# Altium integrated library Altium_WCAP-CSGP (rev22a).IntLib: 953 symbols (part 5 of 17)
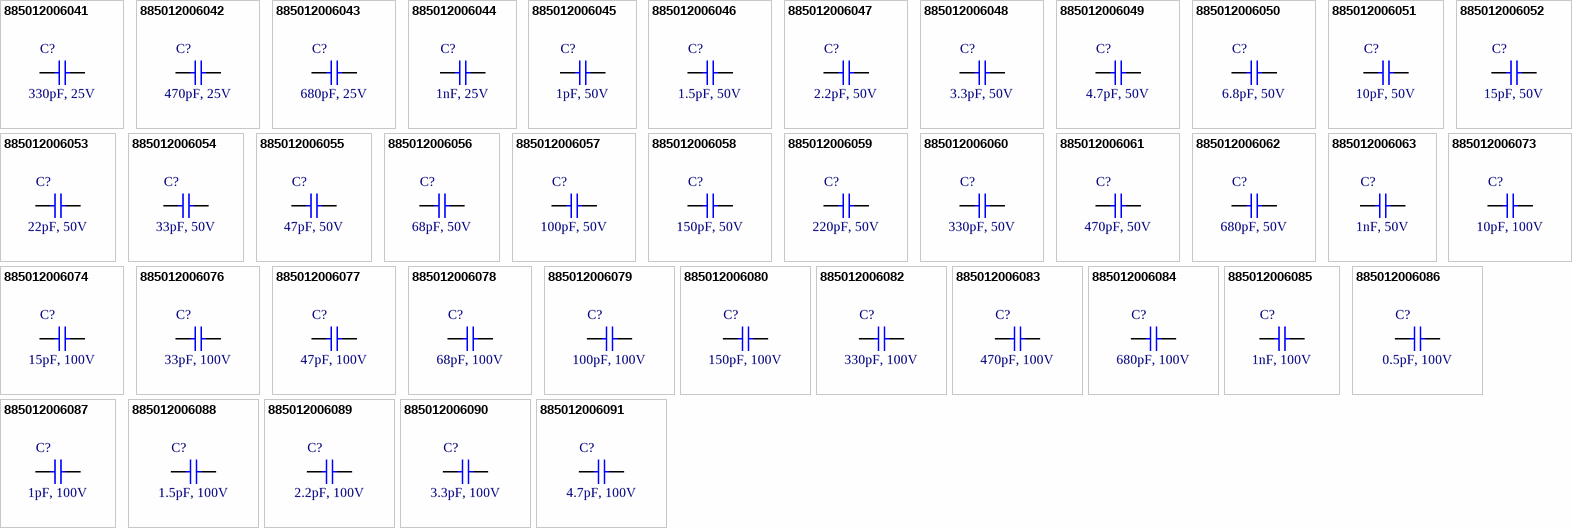
[diagram p31: symbols 885012006041 to 885012006091]

## 885012006084
designator C?, comment 680pF, 100V
WCAP-CSGP Multilayer Ceramic Chip Capacitor, General Purpose, size 0603, NP0, 680pF, 100V; Manufacturer: Wurth Elektronik; Manufacturer Part Number: 885012006084; Capacitance Tolerance: +/-5%; Isolation Resistance: 10GOhm; Q-Factor: 1000; Technical Reference: NP00603681J100DFCT10000; Capacitance: 680pF; Ceramic Type: NP0; ComponentLink1Description: Manufacturer Link; ComponentLink1URL: http://www.we-online.de; ComponentLink2Description: Datasheet; ComponentLink2URL: https://www.we-online.com/catalog/datasheet/885012006084.pdf; Height: 0.8mm; Length: 1.6mm; Mounting Technology: SMT; Operating Temperature max.: 125C; Operating Temperature min.: -55C; Packaging: Tape and Reel; Rated Voltage: 100V; Size: 0603; Width: 0.8mm
footprint WCAP-CSGP_0603_L1.6W0.8H0.8_Wave
footprint WCAP-CSGP_0603_L1.6W0.8H0.8_Reflow
pins: 1, 2

## 885012006085
designator C?, comment 1nF, 100V
WCAP-CSGP Multilayer Ceramic Chip Capacitor, General Purpose, size 0603, NP0, 1nF, 100V; Manufacturer: Wurth Elektronik; Manufacturer Part Number: 885012006085; Capacitance Tolerance: +/-5%; Isolation Resistance: 10GOhm; Q-Factor: 1000; Technical Reference: NP00603102J100DFCT10000; Capacitance: 1nF; Ceramic Type: NP0; ComponentLink1Description: Manufacturer Link; ComponentLink1URL: http://www.we-online.de; ComponentLink2Description: Datasheet; ComponentLink2URL: https://www.we-online.com/catalog/datasheet/885012006085.pdf; Height: 0.8mm; Length: 1.6mm; Mounting Technology: SMT; Operating Temperature max.: 125C; Operating Temperature min.: -55C; Packaging: Tape and Reel; Rated Voltage: 100V; Size: 0603; Width: 0.8mm
footprint WCAP-CSGP_0603_L1.6W0.8H0.8_Wave
footprint WCAP-CSGP_0603_L1.6W0.8H0.8_Reflow
pins: 1, 2

## 885012006086
designator C?, comment 0.5pF, 100V
WCAP-CSGP Multilayer Ceramic Chip Capacitor, General Purpose, size 0603, NP0, 0.5pF, 100V; Manufacturer: Wurth Elektronik; Manufacturer Part Number: 885012006086; Capacitance Tolerance: +/-0.25pF; Isolation Resistance: 10GOhm; Q-Factor: 410; Technical Reference: NP00603R50C100DFCT10000; Capacitance: 0.5pF; Ceramic Type: NP0; ComponentLink1Description: Manufacturer Link; ComponentLink1URL: http://www.we-online.de; ComponentLink2Description: Datasheet; ComponentLink2URL: https://www.we-online.com/catalog/datasheet/885012006086.pdf; Height: 0.8mm; Length: 1.6mm; Mounting Technology: SMT; Operating Temperature max.: 125C; Operating Temperature min.: -55C; Packaging: Tape and Reel; Rated Voltage: 100V; Size: 0603; Width: 0.8mm
footprint WCAP-CSGP_0603_L1.6W0.8H0.8_Wave
footprint WCAP-CSGP_0603_L1.6W0.8H0.8_Reflow
pins: 1, 2

## 885012006087
designator C?, comment 1pF, 100V
WCAP-CSGP Multilayer Ceramic Chip Capacitor, General Purpose, size 0603, NP0, 1pF, 100V; Manufacturer: Wurth Elektronik; Manufacturer Part Number: 885012006087; Capacitance Tolerance: +/-0.25pF; Isolation Resistance: 10GOhm; Q-Factor: 420; Technical Reference: NP006031R0C100DFCT10000; Capacitance: 1pF; Ceramic Type: NP0; ComponentLink1Description: Manufacturer Link; ComponentLink1URL: http://www.we-online.de; ComponentLink2Description: Datasheet; ComponentLink2URL: https://www.we-online.com/catalog/datasheet/885012006087.pdf; Height: 0.8mm; Length: 1.6mm; Mounting Technology: SMT; Operating Temperature max.: 125C; Operating Temperature min.: -55C; Packaging: Tape and Reel; Rated Voltage: 100V; Size: 0603; Width: 0.8mm
footprint WCAP-CSGP_0603_L1.6W0.8H0.8_Wave
footprint WCAP-CSGP_0603_L1.6W0.8H0.8_Reflow
pins: 1, 2

## 885012006088
designator C?, comment 1.5pF, 100V
WCAP-CSGP Multilayer Ceramic Chip Capacitor, General Purpose, size 0603, NP0, 1.5pF, 100V; Manufacturer: Wurth Elektronik; Manufacturer Part Number: 885012006088; Capacitance Tolerance: +/-0.25pF; Isolation Resistance: 10GOhm; Q-Factor: 430; Technical Reference: NP006031R5C100DFCT10000; Capacitance: 1.5pF; Ceramic Type: NP0; ComponentLink1Description: Manufacturer Link; ComponentLink1URL: http://www.we-online.de; ComponentLink2Description: Datasheet; ComponentLink2URL: https://www.we-online.com/catalog/datasheet/885012006088.pdf; Height: 0.8mm; Length: 1.6mm; Mounting Technology: SMT; Operating Temperature max.: 125C; Operating Temperature min.: -55C; Packaging: Tape and Reel; Rated Voltage: 100V; Size: 0603; Width: 0.8mm
footprint WCAP-CSGP_0603_L1.6W0.8H0.8_Wave
footprint WCAP-CSGP_0603_L1.6W0.8H0.8_Reflow
pins: 1, 2

## 885012006089
designator C?, comment 2.2pF, 100V
WCAP-CSGP Multilayer Ceramic Chip Capacitor, General Purpose, size 0603, NP0, 2.2pF, 100V; Manufacturer: Wurth Elektronik; Manufacturer Part Number: 885012006089; Capacitance Tolerance: +/-0.25pF; Isolation Resistance: 10GOhm; Q-Factor: 444; Technical Reference: NP006032R2C100DFCT10000; Capacitance: 2.2pF; Ceramic Type: NP0; ComponentLink1Description: Manufacturer Link; ComponentLink1URL: http://www.we-online.de; ComponentLink2Description: Datasheet; ComponentLink2URL: https://www.we-online.com/catalog/datasheet/885012006089.pdf; Height: 0.8mm; Length: 1.6mm; Mounting Technology: SMT; Operating Temperature max.: 125C; Operating Temperature min.: -55C; Packaging: Tape and Reel; Rated Voltage: 100V; Size: 0603; Width: 0.8mm
footprint WCAP-CSGP_0603_L1.6W0.8H0.8_Wave
footprint WCAP-CSGP_0603_L1.6W0.8H0.8_Reflow
pins: 1, 2

## 885012006090
designator C?, comment 3.3pF, 100V
WCAP-CSGP Multilayer Ceramic Chip Capacitor, General Purpose, size 0603, NP0, 3.3pF, 100V; Manufacturer: Wurth Elektronik; Manufacturer Part Number: 885012006090; Capacitance Tolerance: +/-0.25pF; Isolation Resistance: 10GOhm; Q-Factor: 466; Technical Reference: NP006033R3C100DFCT10000; Capacitance: 3.3pF; Ceramic Type: NP0; ComponentLink1Description: Manufacturer Link; ComponentLink1URL: http://www.we-online.de; ComponentLink2Description: Datasheet; ComponentLink2URL: https://www.we-online.com/catalog/datasheet/885012006090.pdf; Height: 0.8mm; Length: 1.6mm; Mounting Technology: SMT; Operating Temperature max.: 125C; Operating Temperature min.: -55C; Packaging: Tape and Reel; Rated Voltage: 100V; Size: 0603; Width: 0.8mm
footprint WCAP-CSGP_0603_L1.6W0.8H0.8_Wave
footprint WCAP-CSGP_0603_L1.6W0.8H0.8_Reflow
pins: 1, 2

## 885012006091
designator C?, comment 4.7pF, 100V
WCAP-CSGP Multilayer Ceramic Chip Capacitor, General Purpose, size 0603, NP0, 4.7pF, 100V; Manufacturer: Wurth Elektronik; Manufacturer Part Number: 885012006091; Capacitance Tolerance: +/-0.25pF; Isolation Resistance: 10GOhm; Q-Factor: 494; Technical Reference: NP006034R7C100DFCT10000; Capacitance: 4.7pF; Ceramic Type: NP0; ComponentLink1Description: Manufacturer Link; ComponentLink1URL: http://www.we-online.de; ComponentLink2Description: Datasheet; ComponentLink2URL: https://www.we-online.com/catalog/datasheet/885012006091.pdf; Height: 0.8mm; Length: 1.6mm; Mounting Technology: SMT; Operating Temperature max.: 125C; Operating Temperature min.: -55C; Packaging: Tape and Reel; Rated Voltage: 100V; Size: 0603; Width: 0.8mm
footprint WCAP-CSGP_0603_L1.6W0.8H0.8_Wave
footprint WCAP-CSGP_0603_L1.6W0.8H0.8_Reflow
pins: 1, 2

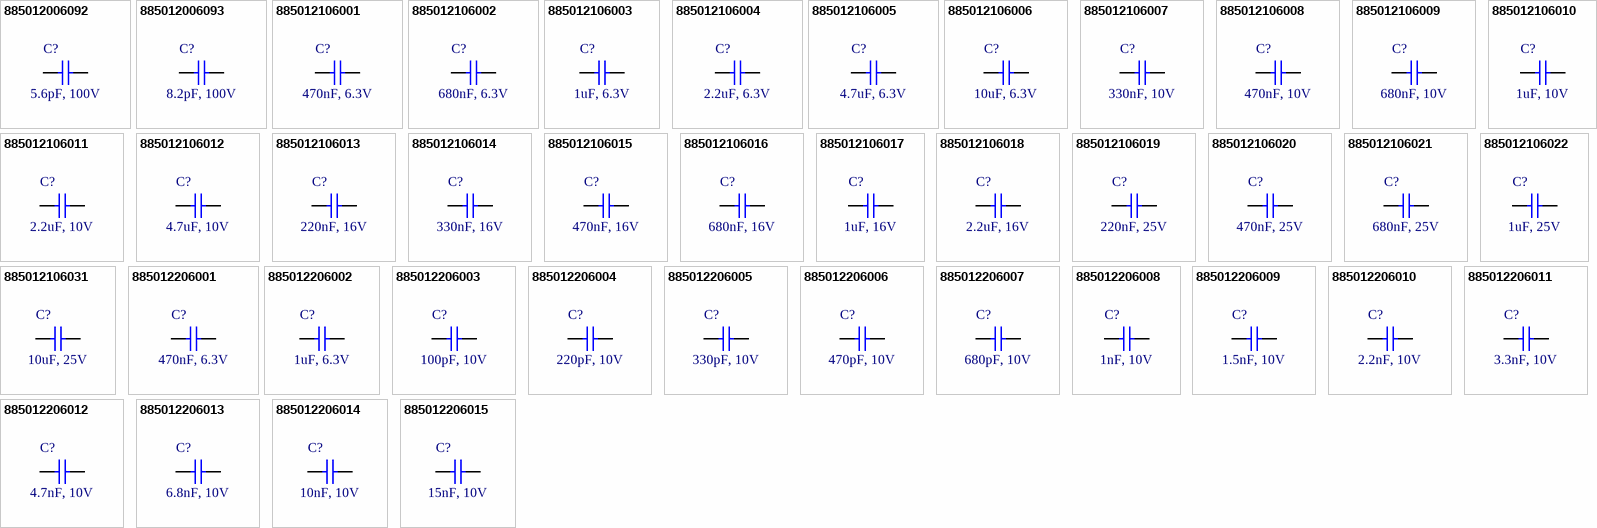
[diagram p7: symbols 885012006092 to 885012206015]

## 885012006092
designator C?, comment 5.6pF, 100V
WCAP-CSGP Multilayer Ceramic Chip Capacitor, General Purpose, size 0603, NP0, 5.6pF, 100V; Manufacturer: Wurth Elektronik; Manufacturer Part Number: 885012006092; Capacitance Tolerance: +/-0.5pF; Isolation Resistance: 10GOhm; Q-Factor: 512; Technical Reference: NP006035R6D100DFCT10000; Capacitance: 5.6pF; Ceramic Type: NP0; ComponentLink1Description: Manufacturer Link; ComponentLink1URL: http://www.we-online.de; ComponentLink2Description: Datasheet; ComponentLink2URL: https://www.we-online.com/catalog/datasheet/885012006092.pdf; Height: 0.8mm; Length: 1.6mm; Mounting Technology: SMT; Operating Temperature max.: 125C; Operating Temperature min.: -55C; Packaging: Tape and Reel; Rated Voltage: 100V; Size: 0603; Width: 0.8mm
footprint WCAP-CSGP_0603_L1.6W0.8H0.8_Wave
footprint WCAP-CSGP_0603_L1.6W0.8H0.8_Reflow
pins: 1, 2

## 885012006093
designator C?, comment 8.2pF, 100V
WCAP-CSGP Multilayer Ceramic Chip Capacitor, General Purpose, size 0603, NP0, 8.2pF, 100V; Manufacturer: Wurth Elektronik; Manufacturer Part Number: 885012006093; Capacitance Tolerance: +/-0.5pF; Isolation Resistance: 10GOhm; Q-Factor: 564; Technical Reference: NP006038R2D100DFCT10000; Capacitance: 8.2pF; Ceramic Type: NP0; ComponentLink1Description: Manufacturer Link; ComponentLink1URL: http://www.we-online.de; ComponentLink2Description: Datasheet; ComponentLink2URL: https://www.we-online.com/catalog/datasheet/885012006093.pdf; Height: 0.8mm; Length: 1.6mm; Mounting Technology: SMT; Operating Temperature max.: 125C; Operating Temperature min.: -55C; Packaging: Tape and Reel; Rated Voltage: 100V; Size: 0603; Width: 0.8mm
footprint WCAP-CSGP_0603_L1.6W0.8H0.8_Wave
footprint WCAP-CSGP_0603_L1.6W0.8H0.8_Reflow
pins: 1, 2

## 885012106001
designator C?, comment 470nF, 6.3V
WCAP-CSGP Multilayer Ceramic Chip Capacitor, General Purpose, size 0603, X5R, 470nF, 6.3V; Manufacturer: Wurth Elektronik; Manufacturer Part Number: 885012106001; Capacitance Tolerance: +/-20%; Dissipation Factor: 10%; Isolation Resistance: 0.2GOhm; Technical Reference: X5R0603474M6R3DFCT10000; Capacitance: 470nF; Ceramic Type: X5R; ComponentLink1Description: Manufacturer Link; ComponentLink1URL: http://www.we-online.de; ComponentLink2Description: Datasheet; ComponentLink2URL: https://www.we-online.com/catalog/datasheet/885012106001.pdf; Height: 0.8mm; Length: 1.6mm; Mounting Technology: SMT; Operating Temperature max.: 85C; Operating Temperature min.: -55C; Packaging: Tape and Reel; Rated Voltage: 6.3V; Size: 0603; Width: 0.8mm
footprint WCAP-CSGP_0603_L1.6W0.8H0.8_Wave
footprint WCAP-CSGP_0603_L1.6W0.8H0.8_Reflow
pins: 1, 2

## 885012106002
designator C?, comment 680nF, 6.3V
WCAP-CSGP Multilayer Ceramic Chip Capacitor, General Purpose, size 0603, X5R, 680nF, 6.3V; Manufacturer: Wurth Elektronik; Manufacturer Part Number: 885012106002; Capacitance Tolerance: +/-20%; Dissipation Factor: 10%; Isolation Resistance: 0.2GOhm; Technical Reference: X5R0603684M6R3DFCT10000; Capacitance: 680nF; Ceramic Type: X5R; ComponentLink1Description: Manufacturer Link; ComponentLink1URL: http://www.we-online.de; ComponentLink2Description: Datasheet; ComponentLink2URL: https://www.we-online.com/catalog/datasheet/885012106002.pdf; Height: 0.8mm; Length: 1.6mm; Mounting Technology: SMT; Operating Temperature max.: 85C; Operating Temperature min.: -55C; Packaging: Tape and Reel; Rated Voltage: 6.3V; Size: 0603; Width: 0.8mm
footprint WCAP-CSGP_0603_L1.6W0.8H0.8_Wave
footprint WCAP-CSGP_0603_L1.6W0.8H0.8_Reflow
pins: 1, 2

## 885012106003
designator C?, comment 1uF, 6.3V
WCAP-CSGP Multilayer Ceramic Chip Capacitor, General Purpose, size 0603, X5R, 1uF, 6.3V; Manufacturer: Wurth Elektronik; Manufacturer Part Number: 885012106003; Capacitance Tolerance: +/-20%; Dissipation Factor: 10%; Isolation Resistance: 0.1GOhm; Technical Reference: X5R0603105M6R3DFCT10000; Capacitance: 1uF; Ceramic Type: X5R; ComponentLink1Description: Manufacturer Link; ComponentLink1URL: http://www.we-online.de; ComponentLink2Description: Datasheet; ComponentLink2URL: https://www.we-online.com/catalog/datasheet/885012106003.pdf; Height: 0.8mm; Length: 1.6mm; Mounting Technology: SMT; Operating Temperature max.: 85C; Operating Temperature min.: -55C; Packaging: Tape and Reel; Rated Voltage: 6.3V; Size: 0603; Width: 0.8mm
footprint WCAP-CSGP_0603_L1.6W0.8H0.8_Wave
footprint WCAP-CSGP_0603_L1.6W0.8H0.8_Reflow
pins: 1, 2

## 885012106004
designator C?, comment 2.2uF, 6.3V
WCAP-CSGP Multilayer Ceramic Chip Capacitor, General Purpose, size 0603, X5R, 2.2uF, 6.3V; Manufacturer: Wurth Elektronik; Manufacturer Part Number: 885012106004; Capacitance Tolerance: +/-20%; Dissipation Factor: 10%; Isolation Resistance: 0.05GOhm; Technical Reference: X5R0603225M6R3DFCT10000; Capacitance: 2.2uF; Ceramic Type: X5R; ComponentLink1Description: Manufacturer Link; ComponentLink1URL: http://www.we-online.de; ComponentLink2Description: Datasheet; ComponentLink2URL: https://www.we-online.com/catalog/datasheet/885012106004.pdf; Height: 0.8mm; Length: 1.6mm; Mounting Technology: SMT; Operating Temperature max.: 85C; Operating Temperature min.: -55C; Packaging: Tape and Reel; Rated Voltage: 6.3V; Size: 0603; Width: 0.8mm
footprint WCAP-CSGP_0603_L1.6W0.8H0.8_Wave
footprint WCAP-CSGP_0603_L1.6W0.8H0.8_Reflow
pins: 1, 2

## 885012106005
designator C?, comment 4.7uF, 6.3V
WCAP-CSGP Multilayer Ceramic Chip Capacitor, General Purpose, size 0603, X5R, 4.7uF, 6.3V; Manufacturer: Wurth Elektronik; Manufacturer Part Number: 885012106005; Capacitance Tolerance: +/-20%; Dissipation Factor: 10%; Isolation Resistance: 0.02GOhm; Technical Reference: X5R0603475M6R3DFCT10000; Capacitance: 4.7uF; Ceramic Type: X5R; ComponentLink1Description: Manufacturer Link; ComponentLink1URL: http://www.we-online.de; ComponentLink2Description: Datasheet; ComponentLink2URL: https://www.we-online.com/catalog/datasheet/885012106005.pdf; Height: 0.8mm; Length: 1.6mm; Mounting Technology: SMT; Operating Temperature max.: 85C; Operating Temperature min.: -55C; Packaging: Tape and Reel; Rated Voltage: 6.3V; Size: 0603; Width: 0.8mm
footprint WCAP-CSGP_0603_L1.6W0.8H0.8_Wave
footprint WCAP-CSGP_0603_L1.6W0.8H0.8_Reflow
pins: 1, 2

## 885012106006
designator C?, comment 10uF, 6.3V
WCAP-CSGP Multilayer Ceramic Chip Capacitor, General Purpose, size 0603, X5R, 10uF, 6.3V; Manufacturer: Wurth Elektronik; Manufacturer Part Number: 885012106006; Capacitance Tolerance: +/-20%; Dissipation Factor: 10%; Isolation Resistance: 0.01GOhm; Technical Reference: X5R0603106M6R3DFCT10000; Capacitance: 10uF; Ceramic Type: X5R; ComponentLink1Description: Manufacturer Link; ComponentLink1URL: http://www.we-online.de; ComponentLink2Description: Datasheet; ComponentLink2URL: https://www.we-online.com/catalog/datasheet/885012106006.pdf; Height: 0.8mm; Length: 1.6mm; Mounting Technology: SMT; Operating Temperature max.: 85C; Operating Temperature min.: -55C; Packaging: Tape and Reel; Rated Voltage: 6.3V; Size: 0603; Width: 0.8mm
footprint WCAP-CSGP_0603_L1.6W0.8H0.8_Wave
footprint WCAP-CSGP_0603_L1.6W0.8H0.8_Reflow
pins: 1, 2

## 885012106007
designator C?, comment 330nF, 10V
WCAP-CSGP Multilayer Ceramic Chip Capacitor, General Purpose, size 0603, X5R, 330nF, 10V; Manufacturer: Wurth Elektronik; Manufacturer Part Number: 885012106007; Capacitance Tolerance: +/-20%; Dissipation Factor: 10%; Isolation Resistance: 1.5GOhm; Technical Reference: X5R0603334M010DFCT10000; Capacitance: 330nF; Ceramic Type: X5R; ComponentLink1Description: Manufacturer Link; ComponentLink1URL: http://www.we-online.de; ComponentLink2Description: Datasheet; ComponentLink2URL: https://www.we-online.com/catalog/datasheet/885012106007.pdf; Height: 0.8mm; Length: 1.6mm; Mounting Technology: SMT; Operating Temperature max.: 85C; Operating Temperature min.: -55C; Packaging: Tape and Reel; Rated Voltage: 10V; Size: 0603; Width: 0.8mm
footprint WCAP-CSGP_0603_L1.6W0.8H0.8_Wave
footprint WCAP-CSGP_0603_L1.6W0.8H0.8_Reflow
pins: 1, 2

## 885012106008
designator C?, comment 470nF, 10V
WCAP-CSGP Multilayer Ceramic Chip Capacitor, General Purpose, size 0603, X5R, 470nF, 10V; Manufacturer: Wurth Elektronik; Manufacturer Part Number: 885012106008; Capacitance Tolerance: +/-20%; Dissipation Factor: 10%; Isolation Resistance: 0.2GOhm; Technical Reference: X5R0603474M010DFCT10000; Capacitance: 470nF; Ceramic Type: X5R; ComponentLink1Description: Manufacturer Link; ComponentLink1URL: http://www.we-online.de; ComponentLink2Description: Datasheet; ComponentLink2URL: https://www.we-online.com/catalog/datasheet/885012106008.pdf; Height: 0.8mm; Length: 1.6mm; Mounting Technology: SMT; Operating Temperature max.: 85C; Operating Temperature min.: -55C; Packaging: Tape and Reel; Rated Voltage: 10V; Size: 0603; Width: 0.8mm
footprint WCAP-CSGP_0603_L1.6W0.8H0.8_Wave
footprint WCAP-CSGP_0603_L1.6W0.8H0.8_Reflow
pins: 1, 2

## 885012106009
designator C?, comment 680nF, 10V
WCAP-CSGP Multilayer Ceramic Chip Capacitor, General Purpose, size 0603, X5R, 680nF, 10V; Manufacturer: Wurth Elektronik; Manufacturer Part Number: 885012106009; Capacitance Tolerance: +/-20%; Dissipation Factor: 10%; Isolation Resistance: 0.2GOhm; Technical Reference: X5R0603684M010DFCT10000; Capacitance: 680nF; Ceramic Type: X5R; ComponentLink1Description: Manufacturer Link; ComponentLink1URL: http://www.we-online.de; ComponentLink2Description: Datasheet; ComponentLink2URL: https://www.we-online.com/catalog/datasheet/885012106009.pdf; Height: 0.8mm; Length: 1.6mm; Mounting Technology: SMT; Operating Temperature max.: 85C; Operating Temperature min.: -55C; Packaging: Tape and Reel; Rated Voltage: 10V; Size: 0603; Width: 0.8mm
footprint WCAP-CSGP_0603_L1.6W0.8H0.8_Wave
footprint WCAP-CSGP_0603_L1.6W0.8H0.8_Reflow
pins: 1, 2

## 885012106010
designator C?, comment 1uF, 10V
WCAP-CSGP Multilayer Ceramic Chip Capacitor, General Purpose, size 0603, X5R, 1uF, 10V; Manufacturer: Wurth Elektronik; Manufacturer Part Number: 885012106010; Capacitance Tolerance: +/-20%; Dissipation Factor: 10%; Isolation Resistance: 0.1GOhm; Technical Reference: X5R0603105M010DFCT10000; Capacitance: 1uF; Ceramic Type: X5R; ComponentLink1Description: Manufacturer Link; ComponentLink1URL: http://www.we-online.de; ComponentLink2Description: Datasheet; ComponentLink2URL: https://www.we-online.com/catalog/datasheet/885012106010.pdf; Height: 0.8mm; Length: 1.6mm; Mounting Technology: SMT; Operating Temperature max.: 85C; Operating Temperature min.: -55C; Packaging: Tape and Reel; Rated Voltage: 10V; Size: 0603; Width: 0.8mm
footprint WCAP-CSGP_0603_L1.6W0.8H0.8_Wave
footprint WCAP-CSGP_0603_L1.6W0.8H0.8_Reflow
pins: 1, 2

## 885012106011
designator C?, comment 2.2uF, 10V
WCAP-CSGP Multilayer Ceramic Chip Capacitor, General Purpose, size 0603, X5R, 2.2uF, 10V; Manufacturer: Wurth Elektronik; Manufacturer Part Number: 885012106011; Capacitance Tolerance: +/-20%; Dissipation Factor: 10%; Isolation Resistance: 0.05GOhm; Technical Reference: X5R0603225M010DFCT10000; Capacitance: 2.2uF; Ceramic Type: X5R; ComponentLink1Description: Manufacturer Link; ComponentLink1URL: http://www.we-online.de; ComponentLink2Description: Datasheet; ComponentLink2URL: https://www.we-online.com/catalog/datasheet/885012106011.pdf; Height: 0.8mm; Length: 1.6mm; Mounting Technology: SMT; Operating Temperature max.: 85C; Operating Temperature min.: -55C; Packaging: Tape and Reel; Rated Voltage: 10V; Size: 0603; Width: 0.8mm
footprint WCAP-CSGP_0603_L1.6W0.8H0.8_Wave
footprint WCAP-CSGP_0603_L1.6W0.8H0.8_Reflow
pins: 1, 2

## 885012106012
designator C?, comment 4.7uF, 10V
WCAP-CSGP Multilayer Ceramic Chip Capacitor, General Purpose, size 0603, X5R, 4.7uF, 10V; Manufacturer: Wurth Elektronik; Manufacturer Part Number: 885012106012; Capacitance Tolerance: +/-20%; Dissipation Factor: 10%; Isolation Resistance: 0.02GOhm; Technical Reference: X5R0603475M010DFCT10000; Capacitance: 4.7uF; Ceramic Type: X5R; ComponentLink1Description: Manufacturer Link; ComponentLink1URL: http://www.we-online.de; ComponentLink2Description: Datasheet; ComponentLink2URL: https://www.we-online.com/catalog/datasheet/885012106012.pdf; Height: 0.8mm; Length: 1.6mm; Mounting Technology: SMT; Operating Temperature max.: 85C; Operating Temperature min.: -55C; Packaging: Tape and Reel; Rated Voltage: 10V; Size: 0603; Width: 0.8mm
footprint WCAP-CSGP_0603_L1.6W0.8H0.8_Wave
footprint WCAP-CSGP_0603_L1.6W0.8H0.8_Reflow
pins: 1, 2

## 885012106013
designator C?, comment 220nF, 16V
WCAP-CSGP Multilayer Ceramic Chip Capacitor, General Purpose, size 0603, X5R, 220nF, 16V; Manufacturer: Wurth Elektronik; Manufacturer Part Number: 885012106013; Capacitance Tolerance: +/-20%; Dissipation Factor: 5%; Isolation Resistance: 2.3GOhm; Technical Reference: X5R0603224M016DFCT10000; Capacitance: 220nF; Ceramic Type: X5R; ComponentLink1Description: Manufacturer Link; ComponentLink1URL: http://www.we-online.de; ComponentLink2Description: Datasheet; ComponentLink2URL: https://www.we-online.com/catalog/datasheet/885012106013.pdf; Height: 0.8mm; Length: 1.6mm; Mounting Technology: SMT; Operating Temperature max.: 85C; Operating Temperature min.: -55C; Packaging: Tape and Reel; Rated Voltage: 16V; Size: 0603; Width: 0.8mm
footprint WCAP-CSGP_0603_L1.6W0.8H0.8_Wave
footprint WCAP-CSGP_0603_L1.6W0.8H0.8_Reflow
pins: 1, 2

## 885012106014
designator C?, comment 330nF, 16V
WCAP-CSGP Multilayer Ceramic Chip Capacitor, General Purpose, size 0603, X5R, 330nF, 16V; Manufacturer: Wurth Elektronik; Manufacturer Part Number: 885012106014; Capacitance Tolerance: +/-20%; Dissipation Factor: 5%; Isolation Resistance: 1.5GOhm; Technical Reference: X5R0603334M016DFCT10000; Capacitance: 330nF; Ceramic Type: X5R; ComponentLink1Description: Manufacturer Link; ComponentLink1URL: http://www.we-online.de; ComponentLink2Description: Datasheet; ComponentLink2URL: https://www.we-online.com/catalog/datasheet/885012106014.pdf; Height: 0.8mm; Length: 1.6mm; Mounting Technology: SMT; Operating Temperature max.: 85C; Operating Temperature min.: -55C; Packaging: Tape and Reel; Rated Voltage: 16V; Size: 0603; Width: 0.8mm
footprint WCAP-CSGP_0603_L1.6W0.8H0.8_Wave
footprint WCAP-CSGP_0603_L1.6W0.8H0.8_Reflow
pins: 1, 2

## 885012106015
designator C?, comment 470nF, 16V
WCAP-CSGP Multilayer Ceramic Chip Capacitor, General Purpose, size 0603, X5R, 470nF, 16V; Manufacturer: Wurth Elektronik; Manufacturer Part Number: 885012106015; Capacitance Tolerance: +/-20%; Dissipation Factor: 5%; Isolation Resistance: 1.1GOhm; Technical Reference: X5R0603474M016DFCT10000; Capacitance: 470nF; Ceramic Type: X5R; ComponentLink1Description: Manufacturer Link; ComponentLink1URL: http://www.we-online.de; ComponentLink2Description: Datasheet; ComponentLink2URL: https://www.we-online.com/catalog/datasheet/885012106015.pdf; Height: 0.8mm; Length: 1.6mm; Mounting Technology: SMT; Operating Temperature max.: 85C; Operating Temperature min.: -55C; Packaging: Tape and Reel; Rated Voltage: 16V; Size: 0603; Width: 0.8mm
footprint WCAP-CSGP_0603_L1.6W0.8H0.8_Wave
footprint WCAP-CSGP_0603_L1.6W0.8H0.8_Reflow
pins: 1, 2

## 885012106016
designator C?, comment 680nF, 16V
WCAP-CSGP Multilayer Ceramic Chip Capacitor, General Purpose, size 0603, X5R, 680nF, 16V; Manufacturer: Wurth Elektronik; Manufacturer Part Number: 885012106016; Capacitance Tolerance: +/-20%; Dissipation Factor: 10%; Isolation Resistance: 0.7GOhm; Technical Reference: X5R0603684M016DFCT10000; Capacitance: 680nF; Ceramic Type: X5R; ComponentLink1Description: Manufacturer Link; ComponentLink1URL: http://www.we-online.de; ComponentLink2Description: Datasheet; ComponentLink2URL: https://www.we-online.com/catalog/datasheet/885012106016.pdf; Height: 0.8mm; Length: 1.6mm; Mounting Technology: SMT; Operating Temperature max.: 85C; Operating Temperature min.: -55C; Packaging: Tape and Reel; Rated Voltage: 16V; Size: 0603; Width: 0.8mm
footprint WCAP-CSGP_0603_L1.6W0.8H0.8_Wave
footprint WCAP-CSGP_0603_L1.6W0.8H0.8_Reflow
pins: 1, 2

## 885012106017
designator C?, comment 1uF, 16V
WCAP-CSGP Multilayer Ceramic Chip Capacitor, General Purpose, size 0603, X5R, 1uF, 16V; Manufacturer: Wurth Elektronik; Manufacturer Part Number: 885012106017; Capacitance Tolerance: +/-20%; Dissipation Factor: 10%; Isolation Resistance: 0.1GOhm; Technical Reference: X5R0603105M016DFCT10000; Capacitance: 1uF; Ceramic Type: X5R; ComponentLink1Description: Manufacturer Link; ComponentLink1URL: http://www.we-online.de; ComponentLink2Description: Datasheet; ComponentLink2URL: https://www.we-online.com/catalog/datasheet/885012106017.pdf; Height: 0.8mm; Length: 1.6mm; Mounting Technology: SMT; Operating Temperature max.: 85C; Operating Temperature min.: -55C; Packaging: Tape and Reel; Rated Voltage: 16V; Size: 0603; Width: 0.8mm
footprint WCAP-CSGP_0603_L1.6W0.8H0.8_Wave
footprint WCAP-CSGP_0603_L1.6W0.8H0.8_Reflow
pins: 1, 2

## 885012106018
designator C?, comment 2.2uF, 16V
WCAP-CSGP Multilayer Ceramic Chip Capacitor, General Purpose, size 0603, X5R, 2.2uF, 16V; Manufacturer: Wurth Elektronik; Manufacturer Part Number: 885012106018; Capacitance Tolerance: +/-20%; Dissipation Factor: 10%; Isolation Resistance: 0.05GOhm; Technical Reference: X5R0603225M016DFCT10000; Capacitance: 2.2uF; Ceramic Type: X5R; ComponentLink1Description: Manufacturer Link; ComponentLink1URL: http://www.we-online.de; ComponentLink2Description: Datasheet; ComponentLink2URL: https://www.we-online.com/catalog/datasheet/885012106018.pdf; Height: 0.8mm; Length: 1.6mm; Mounting Technology: SMT; Operating Temperature max.: 85C; Operating Temperature min.: -55C; Packaging: Tape and Reel; Rated Voltage: 16V; Size: 0603; Width: 0.8mm
footprint WCAP-CSGP_0603_L1.6W0.8H0.8_Wave
footprint WCAP-CSGP_0603_L1.6W0.8H0.8_Reflow
pins: 1, 2

## 885012106019
designator C?, comment 220nF, 25V
WCAP-CSGP Multilayer Ceramic Chip Capacitor, General Purpose, size 0603, X5R, 220nF, 25V; Manufacturer: Wurth Elektronik; Manufacturer Part Number: 885012106019; Capacitance Tolerance: +/-20%; Dissipation Factor: 3.5%; Isolation Resistance: 2.3GOhm; Technical Reference: X5R0603224M025DFCT10000; Capacitance: 220nF; Ceramic Type: X5R; ComponentLink1Description: Manufacturer Link; ComponentLink1URL: http://www.we-online.de; ComponentLink2Description: Datasheet; ComponentLink2URL: https://www.we-online.com/catalog/datasheet/885012106019.pdf; Height: 0.8mm; Length: 1.6mm; Mounting Technology: SMT; Operating Temperature max.: 85C; Operating Temperature min.: -55C; Packaging: Tape and Reel; Rated Voltage: 25V; Size: 0603; Width: 0.8mm
footprint WCAP-CSGP_0603_L1.6W0.8H0.8_Wave
footprint WCAP-CSGP_0603_L1.6W0.8H0.8_Reflow
pins: 1, 2

## 885012106020
designator C?, comment 470nF, 25V
WCAP-CSGP Multilayer Ceramic Chip Capacitor, General Purpose, size 0603, X5R, 470nF, 25V; Manufacturer: Wurth Elektronik; Manufacturer Part Number: 885012106020; Capacitance Tolerance: +/-20%; Dissipation Factor: 10%; Isolation Resistance: 1.1GOhm; Technical Reference: X5R0603474M025DFCT10000; Capacitance: 470nF; Ceramic Type: X5R; ComponentLink1Description: Manufacturer Link; ComponentLink1URL: http://www.we-online.de; ComponentLink2Description: Datasheet; ComponentLink2URL: https://www.we-online.com/catalog/datasheet/885012106020.pdf; Height: 0.8mm; Length: 1.6mm; Mounting Technology: SMT; Operating Temperature max.: 85C; Operating Temperature min.: -55C; Packaging: Tape and Reel; Rated Voltage: 25V; Size: 0603; Width: 0.8mm
footprint WCAP-CSGP_0603_L1.6W0.8H0.8_Wave
footprint WCAP-CSGP_0603_L1.6W0.8H0.8_Reflow
pins: 1, 2

## 885012106021
designator C?, comment 680nF, 25V
WCAP-CSGP Multilayer Ceramic Chip Capacitor, General Purpose, size 0603, X5R, 680nF, 25V; Manufacturer: Wurth Elektronik; Manufacturer Part Number: 885012106021; Capacitance Tolerance: +/-20%; Dissipation Factor: 10%; Isolation Resistance: 0.7GOhm; Technical Reference: X5R0603684M025DFCT10000; Capacitance: 680nF; Ceramic Type: X5R; ComponentLink1Description: Manufacturer Link; ComponentLink1URL: http://www.we-online.de; ComponentLink2Description: Datasheet; ComponentLink2URL: https://www.we-online.com/catalog/datasheet/885012106021.pdf; Height: 0.8mm; Length: 1.6mm; Mounting Technology: SMT; Operating Temperature max.: 85C; Operating Temperature min.: -55C; Packaging: Tape and Reel; Rated Voltage: 25V; Size: 0603; Width: 0.8mm
footprint WCAP-CSGP_0603_L1.6W0.8H0.8_Wave
footprint WCAP-CSGP_0603_L1.6W0.8H0.8_Reflow
pins: 1, 2

## 885012106022
designator C?, comment 1uF, 25V
WCAP-CSGP Multilayer Ceramic Chip Capacitor, General Purpose, size 0603, X5R, 1uF, 25V; Manufacturer: Wurth Elektronik; Manufacturer Part Number: 885012106022; Capacitance Tolerance: +/-20%; Dissipation Factor: 10%; Isolation Resistance: 0.5GOhm; Technical Reference: X5R0603105M025DFCT10000; Capacitance: 1uF; Ceramic Type: X5R; ComponentLink1Description: Manufacturer Link; ComponentLink1URL: http://www.we-online.de; ComponentLink2Description: Datasheet; ComponentLink2URL: https://www.we-online.com/catalog/datasheet/885012106022.pdf; Height: 0.8mm; Length: 1.6mm; Mounting Technology: SMT; Operating Temperature max.: 85C; Operating Temperature min.: -55C; Packaging: Tape and Reel; Rated Voltage: 25V; Size: 0603; Width: 0.8mm
footprint WCAP-CSGP_0603_L1.6W0.8H0.8_Wave
footprint WCAP-CSGP_0603_L1.6W0.8H0.8_Reflow
pins: 1, 2

## 885012106031
designator C?, comment 10uF, 25V
WCAP-CSGP Multilayer Ceramic Chip Capacitor, General Purpose, size 0603, X5R, 10uF, 25V; Manufacturer: Wurth Elektronik; Manufacturer Part Number: 885012106031; Capacitance Tolerance: +/20%; Dissipation Factor: 20%; Isolation Resistance: 0.01GOhm; Technical Reference: X5R0603106M025DFCT10000; Capacitance: 10uF; Ceramic Type: X5R; ComponentLink1Description: Manufacturer Link; ComponentLink1URL: http://www.we-online.de; ComponentLink2Description: Datasheet; ComponentLink2URL: https://www.we-online.com/catalog/datasheet/885012106031.pdf; Height: 0.8mm; Length: 1.6mm; Mounting Technology: SMT; Operating Temperature max.: 85C; Operating Temperature min.: -55C; Packaging: Tape and Reel; Rated Voltage: 25V; Size: 0603; Width: 0.8mm
footprint WCAP-CSGP_0603_L1.6W0.8H0.8_Wave
footprint WCAP-CSGP_0603_L1.6W0.8H0.8_Reflow
pins: 1, 2

## 885012206001
designator C?, comment 470nF, 6.3V
WCAP-CSGP Multilayer Ceramic Chip Capacitor, General Purpose, size 0603, X7R, 470nF, 6.3V; Manufacturer: Wurth Elektronik; Manufacturer Part Number: 885012206001; Capacitance Tolerance: +/-10%; Dissipation Factor: 10%; Isolation Resistance: 0.2GOhm; Technical Reference: X7R0603474K6R3DFCT10000; Capacitance: 470nF; Ceramic Type: X7R; ComponentLink1Description: Manufacturer Link; ComponentLink1URL: http://www.we-online.de; ComponentLink2Description: Datasheet; ComponentLink2URL: https://www.we-online.com/catalog/datasheet/885012206001.pdf; Height: 0.8mm; Length: 1.6mm; Mounting Technology: SMT; Operating Temperature max.: 125C; Operating Temperature min.: -55C; Packaging: Tape and Reel; Rated Voltage: 6.3V; Size: 0603; Width: 0.8mm
footprint WCAP-CSGP_0603_L1.6W0.8H0.8_Wave
footprint WCAP-CSGP_0603_L1.6W0.8H0.8_Reflow
pins: 1, 2

## 885012206002
designator C?, comment 1uF, 6.3V
WCAP-CSGP Multilayer Ceramic Chip Capacitor, General Purpose, size 0603, X7R, 1uF, 6.3V; Manufacturer: Wurth Elektronik; Manufacturer Part Number: 885012206002; Capacitance Tolerance: +/-10%; Dissipation Factor: 10%; Isolation Resistance: 0.1GOhm; Technical Reference: X7R0603105K6R3DFCT10000; Capacitance: 1uF; Ceramic Type: X7R; ComponentLink1Description: Manufacturer Link; ComponentLink1URL: http://www.we-online.de; ComponentLink2Description: Datasheet; ComponentLink2URL: https://www.we-online.com/catalog/datasheet/885012206002.pdf; Height: 0.8mm; Length: 1.6mm; Mounting Technology: SMT; Operating Temperature max.: 125C; Operating Temperature min.: -55C; Packaging: Tape and Reel; Rated Voltage: 6.3V; Size: 0603; Width: 0.8mm
footprint WCAP-CSGP_0603_L1.6W0.8H0.8_Wave
footprint WCAP-CSGP_0603_L1.6W0.8H0.8_Reflow
pins: 1, 2

## 885012206003
designator C?, comment 100pF, 10V
WCAP-CSGP Multilayer Ceramic Chip Capacitor, General Purpose, size 0603, X7R, 100pF, 10V; Manufacturer: Wurth Elektronik; Manufacturer Part Number: 885012206003; Capacitance Tolerance: +/-10%; Dissipation Factor: 5%; Isolation Resistance: 10GOhm; Technical Reference: X7R0603101K010DFCT10000; Capacitance: 100pF; Ceramic Type: X7R; ComponentLink1Description: Manufacturer Link; ComponentLink1URL: http://www.we-online.de; ComponentLink2Description: Datasheet; ComponentLink2URL: https://www.we-online.com/catalog/datasheet/885012206003.pdf; Height: 0.8mm; Length: 1.6mm; Mounting Technology: SMT; Operating Temperature max.: 125C; Operating Temperature min.: -55C; Packaging: Tape and Reel; Rated Voltage: 10V; Size: 0603; Width: 0.8mm
footprint WCAP-CSGP_0603_L1.6W0.8H0.8_Wave
footprint WCAP-CSGP_0603_L1.6W0.8H0.8_Reflow
pins: 1, 2

## 885012206004
designator C?, comment 220pF, 10V
WCAP-CSGP Multilayer Ceramic Chip Capacitor, General Purpose, size 0603, X7R, 220pF, 10V; Manufacturer: Wurth Elektronik; Manufacturer Part Number: 885012206004; Capacitance Tolerance: +/-10%; Dissipation Factor: 5%; Isolation Resistance: 10GOhm; Technical Reference: X7R0603221K010DFCT10000; Capacitance: 220pF; Ceramic Type: X7R; ComponentLink1Description: Manufacturer Link; ComponentLink1URL: http://www.we-online.de; ComponentLink2Description: Datasheet; ComponentLink2URL: https://www.we-online.com/catalog/datasheet/885012206004.pdf; Height: 0.8mm; Length: 1.6mm; Mounting Technology: SMT; Operating Temperature max.: 125C; Operating Temperature min.: -55C; Packaging: Tape and Reel; Rated Voltage: 10V; Size: 0603; Width: 0.8mm
footprint WCAP-CSGP_0603_L1.6W0.8H0.8_Wave
footprint WCAP-CSGP_0603_L1.6W0.8H0.8_Reflow
pins: 1, 2

## 885012206005
designator C?, comment 330pF, 10V
WCAP-CSGP Multilayer Ceramic Chip Capacitor, General Purpose, size 0603, X7R, 330pF, 10V; Manufacturer: Wurth Elektronik; Manufacturer Part Number: 885012206005; Capacitance Tolerance: +/-10%; Dissipation Factor: 5%; Isolation Resistance: 10GOhm; Technical Reference: X7R0603331K010DFCT10000; Capacitance: 330pF; Ceramic Type: X7R; ComponentLink1Description: Manufacturer Link; ComponentLink1URL: http://www.we-online.de; ComponentLink2Description: Datasheet; ComponentLink2URL: https://www.we-online.com/catalog/datasheet/885012206005.pdf; Height: 0.8mm; Length: 1.6mm; Mounting Technology: SMT; Operating Temperature max.: 125C; Operating Temperature min.: -55C; Packaging: Tape and Reel; Rated Voltage: 10V; Size: 0603; Width: 0.8mm
footprint WCAP-CSGP_0603_L1.6W0.8H0.8_Wave
footprint WCAP-CSGP_0603_L1.6W0.8H0.8_Reflow
pins: 1, 2

## 885012206006
designator C?, comment 470pF, 10V
WCAP-CSGP Multilayer Ceramic Chip Capacitor, General Purpose, size 0603, X7R, 470pF, 10V; Manufacturer: Wurth Elektronik; Manufacturer Part Number: 885012206006; Capacitance Tolerance: +/-10%; Dissipation Factor: 5%; Isolation Resistance: 10GOhm; Technical Reference: X7R0603471K010DFCT10000; Capacitance: 470pF; Ceramic Type: X7R; ComponentLink1Description: Manufacturer Link; ComponentLink1URL: http://www.we-online.de; ComponentLink2Description: Datasheet; ComponentLink2URL: https://www.we-online.com/catalog/datasheet/885012206006.pdf; Height: 0.8mm; Length: 1.6mm; Mounting Technology: SMT; Operating Temperature max.: 125C; Operating Temperature min.: -55C; Packaging: Tape and Reel; Rated Voltage: 10V; Size: 0603; Width: 0.8mm
footprint WCAP-CSGP_0603_L1.6W0.8H0.8_Wave
footprint WCAP-CSGP_0603_L1.6W0.8H0.8_Reflow
pins: 1, 2

## 885012206007
designator C?, comment 680pF, 10V
WCAP-CSGP Multilayer Ceramic Chip Capacitor, General Purpose, size 0603, X7R, 680pF, 10V; Manufacturer: Wurth Elektronik; Manufacturer Part Number: 885012206007; Capacitance Tolerance: +/-10%; Dissipation Factor: 5%; Isolation Resistance: 10GOhm; Technical Reference: X7R0603681K010DFCT10000; Capacitance: 680pF; Ceramic Type: X7R; ComponentLink1Description: Manufacturer Link; ComponentLink1URL: http://www.we-online.de; ComponentLink2Description: Datasheet; ComponentLink2URL: https://www.we-online.com/catalog/datasheet/885012206007.pdf; Height: 0.8mm; Length: 1.6mm; Mounting Technology: SMT; Operating Temperature max.: 125C; Operating Temperature min.: -55C; Packaging: Tape and Reel; Rated Voltage: 10V; Size: 0603; Width: 0.8mm
footprint WCAP-CSGP_0603_L1.6W0.8H0.8_Wave
footprint WCAP-CSGP_0603_L1.6W0.8H0.8_Reflow
pins: 1, 2

## 885012206008
designator C?, comment 1nF, 10V
WCAP-CSGP Multilayer Ceramic Chip Capacitor, General Purpose, size 0603, X7R, 1nF, 10V; Manufacturer: Wurth Elektronik; Manufacturer Part Number: 885012206008; Capacitance Tolerance: +/-10%; Dissipation Factor: 5%; Isolation Resistance: 10GOhm; Technical Reference: X7R0603102K010DFCT10000; Capacitance: 1nF; Ceramic Type: X7R; ComponentLink1Description: Manufacturer Link; ComponentLink1URL: http://www.we-online.de; ComponentLink2Description: Datasheet; ComponentLink2URL: https://www.we-online.com/catalog/datasheet/885012206008.pdf; Height: 0.8mm; Length: 1.6mm; Mounting Technology: SMT; Operating Temperature max.: 125C; Operating Temperature min.: -55C; Packaging: Tape and Reel; Rated Voltage: 10V; Size: 0603; Width: 0.8mm
footprint WCAP-CSGP_0603_L1.6W0.8H0.8_Wave
footprint WCAP-CSGP_0603_L1.6W0.8H0.8_Reflow
pins: 1, 2

## 885012206009
designator C?, comment 1.5nF, 10V
WCAP-CSGP Multilayer Ceramic Chip Capacitor, General Purpose, size 0603, X7R, 1.5nF, 10V; Manufacturer: Wurth Elektronik; Manufacturer Part Number: 885012206009; Capacitance Tolerance: +/-10%; Dissipation Factor: 5%; Isolation Resistance: 10GOhm; Technical Reference: X7R0603152K010DFCT10000; Capacitance: 1.5nF; Ceramic Type: X7R; ComponentLink1Description: Manufacturer Link; ComponentLink1URL: http://www.we-online.de; ComponentLink2Description: Datasheet; ComponentLink2URL: https://www.we-online.com/catalog/datasheet/885012206009.pdf; Height: 0.8mm; Length: 1.6mm; Mounting Technology: SMT; Operating Temperature max.: 125C; Operating Temperature min.: -55C; Packaging: Tape and Reel; Rated Voltage: 10V; Size: 0603; Width: 0.8mm
footprint WCAP-CSGP_0603_L1.6W0.8H0.8_Wave
footprint WCAP-CSGP_0603_L1.6W0.8H0.8_Reflow
pins: 1, 2

## 885012206010
designator C?, comment 2.2nF, 10V
WCAP-CSGP Multilayer Ceramic Chip Capacitor, General Purpose, size 0603, X7R, 2.2nF, 10V; Manufacturer: Wurth Elektronik; Manufacturer Part Number: 885012206010; Capacitance Tolerance: +/-10%; Dissipation Factor: 5%; Isolation Resistance: 10GOhm; Technical Reference: X7R0603222K010DFCT10000; Capacitance: 2.2nF; Ceramic Type: X7R; ComponentLink1Description: Manufacturer Link; ComponentLink1URL: http://www.we-online.de; ComponentLink2Description: Datasheet; ComponentLink2URL: https://www.we-online.com/catalog/datasheet/885012206010.pdf; Height: 0.8mm; Length: 1.6mm; Mounting Technology: SMT; Operating Temperature max.: 125C; Operating Temperature min.: -55C; Packaging: Tape and Reel; Rated Voltage: 10V; Size: 0603; Width: 0.8mm
footprint WCAP-CSGP_0603_L1.6W0.8H0.8_Wave
footprint WCAP-CSGP_0603_L1.6W0.8H0.8_Reflow
pins: 1, 2

## 885012206011
designator C?, comment 3.3nF, 10V
WCAP-CSGP Multilayer Ceramic Chip Capacitor, General Purpose, size 0603, X7R, 3.3nF, 10V; Manufacturer: Wurth Elektronik; Manufacturer Part Number: 885012206011; Capacitance Tolerance: +/-10%; Dissipation Factor: 5%; Isolation Resistance: 10GOhm; Technical Reference: X7R0603332K010DFCT10000; Capacitance: 3.3nF; Ceramic Type: X7R; ComponentLink1Description: Manufacturer Link; ComponentLink1URL: http://www.we-online.de; ComponentLink2Description: Datasheet; ComponentLink2URL: https://www.we-online.com/catalog/datasheet/885012206011.pdf; Height: 0.8mm; Length: 1.6mm; Mounting Technology: SMT; Operating Temperature max.: 125C; Operating Temperature min.: -55C; Packaging: Tape and Reel; Rated Voltage: 10V; Size: 0603; Width: 0.8mm
footprint WCAP-CSGP_0603_L1.6W0.8H0.8_Wave
footprint WCAP-CSGP_0603_L1.6W0.8H0.8_Reflow
pins: 1, 2

## 885012206012
designator C?, comment 4.7nF, 10V
WCAP-CSGP Multilayer Ceramic Chip Capacitor, General Purpose, size 0603, X7R, 4.7nF, 10V; Manufacturer: Wurth Elektronik; Manufacturer Part Number: 885012206012; Capacitance Tolerance: +/-10%; Dissipation Factor: 5%; Isolation Resistance: 10GOhm; Technical Reference: X7R0603472K010DFCT10000; Capacitance: 4.7nF; Ceramic Type: X7R; ComponentLink1Description: Manufacturer Link; ComponentLink1URL: http://www.we-online.de; ComponentLink2Description: Datasheet; ComponentLink2URL: https://www.we-online.com/catalog/datasheet/885012206012.pdf; Height: 0.8mm; Length: 1.6mm; Mounting Technology: SMT; Operating Temperature max.: 125C; Operating Temperature min.: -55C; Packaging: Tape and Reel; Rated Voltage: 10V; Size: 0603; Width: 0.8mm
footprint WCAP-CSGP_0603_L1.6W0.8H0.8_Wave
footprint WCAP-CSGP_0603_L1.6W0.8H0.8_Reflow
pins: 1, 2

## 885012206013
designator C?, comment 6.8nF, 10V
WCAP-CSGP Multilayer Ceramic Chip Capacitor, General Purpose, size 0603, X7R, 6.8nF, 10V; Manufacturer: Wurth Elektronik; Manufacturer Part Number: 885012206013; Capacitance Tolerance: +/-10%; Dissipation Factor: 5%; Isolation Resistance: 10GOhm; Technical Reference: X7R0603682K010DFCT10000; Capacitance: 6.8nF; Ceramic Type: X7R; ComponentLink1Description: Manufacturer Link; ComponentLink1URL: http://www.we-online.de; ComponentLink2Description: Datasheet; ComponentLink2URL: https://www.we-online.com/catalog/datasheet/885012206013.pdf; Height: 0.8mm; Length: 1.6mm; Mounting Technology: SMT; Operating Temperature max.: 125C; Operating Temperature min.: -55C; Packaging: Tape and Reel; Rated Voltage: 10V; Size: 0603; Width: 0.8mm
footprint WCAP-CSGP_0603_L1.6W0.8H0.8_Wave
footprint WCAP-CSGP_0603_L1.6W0.8H0.8_Reflow
pins: 1, 2

## 885012206014
designator C?, comment 10nF, 10V
WCAP-CSGP Multilayer Ceramic Chip Capacitor, General Purpose, size 0603, X7R, 10nF, 10V; Manufacturer: Wurth Elektronik; Manufacturer Part Number: 885012206014; Capacitance Tolerance: +/-10%; Dissipation Factor: 5%; Isolation Resistance: 10GOhm; Technical Reference: X7R0603103K010DFCT10000; Capacitance: 10nF; Ceramic Type: X7R; ComponentLink1Description: Manufacturer Link; ComponentLink1URL: http://www.we-online.de; ComponentLink2Description: Datasheet; ComponentLink2URL: https://www.we-online.com/catalog/datasheet/885012206014.pdf; Height: 0.8mm; Length: 1.6mm; Mounting Technology: SMT; Operating Temperature max.: 125C; Operating Temperature min.: -55C; Packaging: Tape and Reel; Rated Voltage: 10V; Size: 0603; Width: 0.8mm
footprint WCAP-CSGP_0603_L1.6W0.8H0.8_Wave
footprint WCAP-CSGP_0603_L1.6W0.8H0.8_Reflow
pins: 1, 2

## 885012206015
designator C?, comment 15nF, 10V
WCAP-CSGP Multilayer Ceramic Chip Capacitor, General Purpose, size 0603, X7R, 15nF, 10V; Manufacturer: Wurth Elektronik; Manufacturer Part Number: 885012206015; Capacitance Tolerance: +/-10%; Dissipation Factor: 5%; Isolation Resistance: 10GOhm; Technical Reference: X7R0603153K010DFCT10000; Capacitance: 15nF; Ceramic Type: X7R; ComponentLink1Description: Manufacturer Link; ComponentLink1URL: http://www.we-online.de; ComponentLink2Description: Datasheet; ComponentLink2URL: https://www.we-online.com/catalog/datasheet/885012206015.pdf; Height: 0.8mm; Length: 1.6mm; Mounting Technology: SMT; Operating Temperature max.: 125C; Operating Temperature min.: -55C; Packaging: Tape and Reel; Rated Voltage: 10V; Size: 0603; Width: 0.8mm
footprint WCAP-CSGP_0603_L1.6W0.8H0.8_Wave
footprint WCAP-CSGP_0603_L1.6W0.8H0.8_Reflow
pins: 1, 2

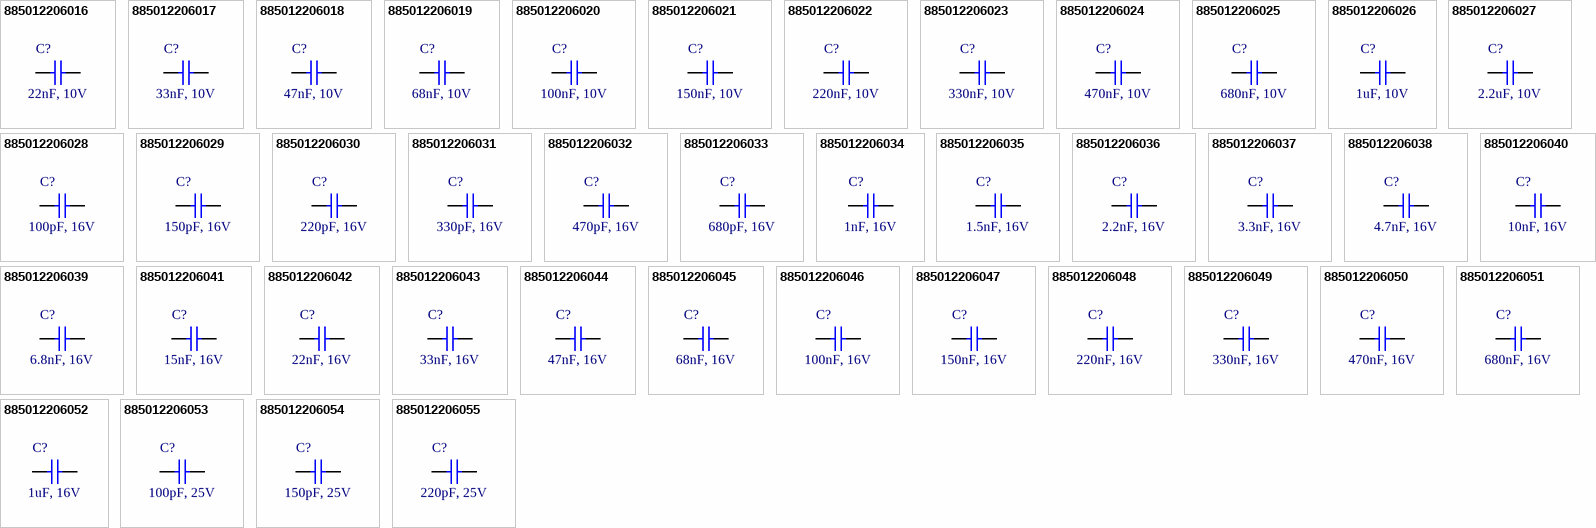
[diagram p8: symbols 885012206016 to 885012206055]

## 885012206016
designator C?, comment 22nF, 10V
WCAP-CSGP Multilayer Ceramic Chip Capacitor, General Purpose, size 0603, X7R, 22nF, 10V; Manufacturer: Wurth Elektronik; Manufacturer Part Number: 885012206016; Capacitance Tolerance: +/-10%; Dissipation Factor: 5%; Isolation Resistance: 10GOhm; Technical Reference: X7R0603223K010DFCT10000; Capacitance: 22nF; Ceramic Type: X7R; ComponentLink1Description: Manufacturer Link; ComponentLink1URL: http://www.we-online.de; ComponentLink2Description: Datasheet; ComponentLink2URL: https://www.we-online.com/catalog/datasheet/885012206016.pdf; Height: 0.8mm; Length: 1.6mm; Mounting Technology: SMT; Operating Temperature max.: 125C; Operating Temperature min.: -55C; Packaging: Tape and Reel; Rated Voltage: 10V; Size: 0603; Width: 0.8mm
footprint WCAP-CSGP_0603_L1.6W0.8H0.8_Wave
footprint WCAP-CSGP_0603_L1.6W0.8H0.8_Reflow
pins: 1, 2

## 885012206017
designator C?, comment 33nF, 10V
WCAP-CSGP Multilayer Ceramic Chip Capacitor, General Purpose, size 0603, X7R, 33nF, 10V; Manufacturer: Wurth Elektronik; Manufacturer Part Number: 885012206017; Capacitance Tolerance: +/-10%; Dissipation Factor: 5%; Isolation Resistance: 10GOhm; Technical Reference: X7R0603333K010DFCT10000; Capacitance: 33nF; Ceramic Type: X7R; ComponentLink1Description: Manufacturer Link; ComponentLink1URL: http://www.we-online.de; ComponentLink2Description: Datasheet; ComponentLink2URL: https://www.we-online.com/catalog/datasheet/885012206017.pdf; Height: 0.8mm; Length: 1.6mm; Mounting Technology: SMT; Operating Temperature max.: 125C; Operating Temperature min.: -55C; Packaging: Tape and Reel; Rated Voltage: 10V; Size: 0603; Width: 0.8mm
footprint WCAP-CSGP_0603_L1.6W0.8H0.8_Wave
footprint WCAP-CSGP_0603_L1.6W0.8H0.8_Reflow
pins: 1, 2

## 885012206018
designator C?, comment 47nF, 10V
WCAP-CSGP Multilayer Ceramic Chip Capacitor, General Purpose, size 0603, X7R, 47nF, 10V; Manufacturer: Wurth Elektronik; Manufacturer Part Number: 885012206018; Capacitance Tolerance: +/-10%; Dissipation Factor: 5%; Isolation Resistance: 10GOhm; Technical Reference: X7R0603473K010DFCT10000; Capacitance: 47nF; Ceramic Type: X7R; ComponentLink1Description: Manufacturer Link; ComponentLink1URL: http://www.we-online.de; ComponentLink2Description: Datasheet; ComponentLink2URL: https://www.we-online.com/catalog/datasheet/885012206018.pdf; Height: 0.8mm; Length: 1.6mm; Mounting Technology: SMT; Operating Temperature max.: 125C; Operating Temperature min.: -55C; Packaging: Tape and Reel; Rated Voltage: 10V; Size: 0603; Width: 0.8mm
footprint WCAP-CSGP_0603_L1.6W0.8H0.8_Wave
footprint WCAP-CSGP_0603_L1.6W0.8H0.8_Reflow
pins: 1, 2

## 885012206019
designator C?, comment 68nF, 10V
WCAP-CSGP Multilayer Ceramic Chip Capacitor, General Purpose, size 0603, X7R, 68nF, 10V; Manufacturer: Wurth Elektronik; Manufacturer Part Number: 885012206019; Capacitance Tolerance: +/-10%; Dissipation Factor: 5%; Isolation Resistance: 7.4GOhm; Technical Reference: X7R0603683K010DFCT10000; Capacitance: 68nF; Ceramic Type: X7R; ComponentLink1Description: Manufacturer Link; ComponentLink1URL: http://www.we-online.de; ComponentLink2Description: Datasheet; ComponentLink2URL: https://www.we-online.com/catalog/datasheet/885012206019.pdf; Height: 0.8mm; Length: 1.6mm; Mounting Technology: SMT; Operating Temperature max.: 125C; Operating Temperature min.: -55C; Packaging: Tape and Reel; Rated Voltage: 10V; Size: 0603; Width: 0.8mm
footprint WCAP-CSGP_0603_L1.6W0.8H0.8_Wave
footprint WCAP-CSGP_0603_L1.6W0.8H0.8_Reflow
pins: 1, 2

## 885012206020
designator C?, comment 100nF, 10V
WCAP-CSGP Multilayer Ceramic Chip Capacitor, General Purpose, size 0603, X7R, 100nF, 10V; Manufacturer: Wurth Elektronik; Manufacturer Part Number: 885012206020; Capacitance Tolerance: +/-10%; Dissipation Factor: 5%; Isolation Resistance: 5GOhm; Technical Reference: X7R0603104K010DFCT10000; Capacitance: 100nF; Ceramic Type: X7R; ComponentLink1Description: Manufacturer Link; ComponentLink1URL: http://www.we-online.de; ComponentLink2Description: Datasheet; ComponentLink2URL: https://www.we-online.com/catalog/datasheet/885012206020.pdf; Height: 0.8mm; Length: 1.6mm; Mounting Technology: SMT; Operating Temperature max.: 125C; Operating Temperature min.: -55C; Packaging: Tape and Reel; Rated Voltage: 10V; Size: 0603; Width: 0.8mm
footprint WCAP-CSGP_0603_L1.6W0.8H0.8_Wave
footprint WCAP-CSGP_0603_L1.6W0.8H0.8_Reflow
pins: 1, 2

## 885012206021
designator C?, comment 150nF, 10V
WCAP-CSGP Multilayer Ceramic Chip Capacitor, General Purpose, size 0603, X7R, 150nF, 10V; Manufacturer: Wurth Elektronik; Manufacturer Part Number: 885012206021; Capacitance Tolerance: +/-10%; Dissipation Factor: 5%; Isolation Resistance: 3.3GOhm; Technical Reference: X7R0603154K010DFCT10000; Capacitance: 150nF; Ceramic Type: X7R; ComponentLink1Description: Manufacturer Link; ComponentLink1URL: http://www.we-online.de; ComponentLink2Description: Datasheet; ComponentLink2URL: https://www.we-online.com/catalog/datasheet/885012206021.pdf; Height: 0.8mm; Length: 1.6mm; Mounting Technology: SMT; Operating Temperature max.: 125C; Operating Temperature min.: -55C; Packaging: Tape and Reel; Rated Voltage: 10V; Size: 0603; Width: 0.8mm
footprint WCAP-CSGP_0603_L1.6W0.8H0.8_Wave
footprint WCAP-CSGP_0603_L1.6W0.8H0.8_Reflow
pins: 1, 2

## 885012206022
designator C?, comment 220nF, 10V
WCAP-CSGP Multilayer Ceramic Chip Capacitor, General Purpose, size 0603, X7R, 220nF, 10V; Manufacturer: Wurth Elektronik; Manufacturer Part Number: 885012206022; Capacitance Tolerance: +/-10%; Dissipation Factor: 5%; Isolation Resistance: 2.3GOhm; Technical Reference: X7R0603224K010DFCT10000; Capacitance: 220nF; Ceramic Type: X7R; ComponentLink1Description: Manufacturer Link; ComponentLink1URL: http://www.we-online.de; ComponentLink2Description: Datasheet; ComponentLink2URL: https://www.we-online.com/catalog/datasheet/885012206022.pdf; Height: 0.8mm; Length: 1.6mm; Mounting Technology: SMT; Operating Temperature max.: 125C; Operating Temperature min.: -55C; Packaging: Tape and Reel; Rated Voltage: 10V; Size: 0603; Width: 0.8mm
footprint WCAP-CSGP_0603_L1.6W0.8H0.8_Wave
footprint WCAP-CSGP_0603_L1.6W0.8H0.8_Reflow
pins: 1, 2

## 885012206023
designator C?, comment 330nF, 10V
WCAP-CSGP Multilayer Ceramic Chip Capacitor, General Purpose, size 0603, X7R, 330nF, 10V; Manufacturer: Wurth Elektronik; Manufacturer Part Number: 885012206023; Capacitance Tolerance: +/-10%; Dissipation Factor: 10%; Isolation Resistance: 1.5GOhm; Technical Reference: X7R0603334K010DFCT10000; Capacitance: 330nF; Ceramic Type: X7R; ComponentLink1Description: Manufacturer Link; ComponentLink1URL: http://www.we-online.de; ComponentLink2Description: Datasheet; ComponentLink2URL: https://www.we-online.com/catalog/datasheet/885012206023.pdf; Height: 0.8mm; Length: 1.6mm; Mounting Technology: SMT; Operating Temperature max.: 125C; Operating Temperature min.: -55C; Packaging: Tape and Reel; Rated Voltage: 10V; Size: 0603; Width: 0.8mm
footprint WCAP-CSGP_0603_L1.6W0.8H0.8_Wave
footprint WCAP-CSGP_0603_L1.6W0.8H0.8_Reflow
pins: 1, 2